# Altium schematic symbol library LTC6655.SchLib: 1 symbol
Pins are listed as number, name and electrical type; pins without a type are passive.

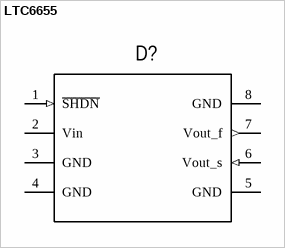
[diagram p0: symbol LTC6655]

## LTC6655
designator D?  (value not drawn)
pins: 1 ~{SHDN} (in), 2 Vin (power), 3 GND (power), 4 GND (power), 5 GND (power), 6 Vout_s (in), 7 Vout_f (out), 8 GND (power)